# Altium schematic symbol library RobotShematicLib.SchLib: 3 symbols
Pins are listed as number, name and electrical type; pins without a type are passive.

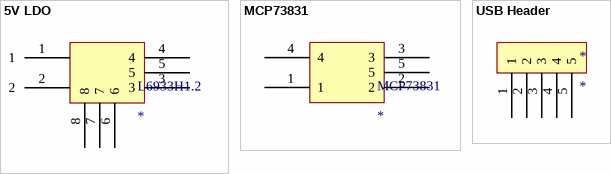
[diagram p0: symbols 5V LDO to USB Header]

## 5V LDO
designator L6933H1.2
pins: 1, 2, 3, 4, 5, 6, 7, 8

## MCP73831
designator MCP73831
LiPo Charging Controller
pins: 1, 2, 3, 4, 5

## USB Header
designator *
pins: 1, 2, 3, 4, 5